# EAGLE library part 8PIN(L) (library my_connector)
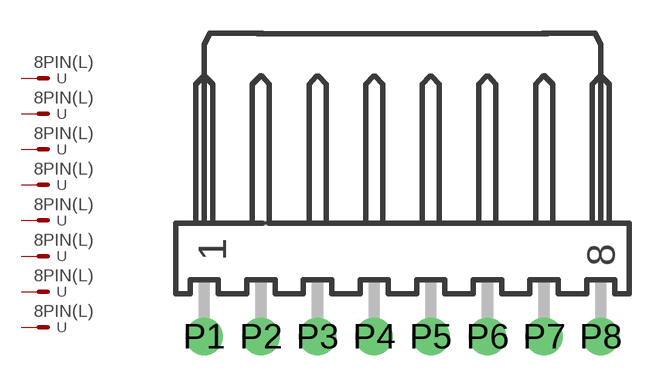
[diagram p5: symbol with the pads of 8PL; footprint 8PL]

Designator prefix -

## 8PIN(L)  [8PL]
P1  P1  pas
P2  P2  pas
P3  P3  pas
P4  P4  pas
P5  P5  pas
P6  P6  pas
P7  P7  pas
P8  P8  pas

## Footprint 8PL (pad centres in mm)
drill 1 pad 1.676: P1 -8.89,-3.81; P2 -6.35,-3.81; P3 -3.81,-3.81; P4 -1.27,-3.81; P5 1.27,-3.81; P6 3.81,-3.81; P7 6.35,-3.81; P8 8.89,-3.81